# Altium integrated library DTM1312PA12PBR008.IntLib: 1 symbol
Pins are listed as number, name and electrical type; pins without a type are passive.

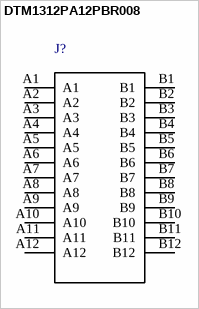
[diagram p0: symbol DTM1312PA12PBR008]

## DTM1312PA12PBR008
designator J?  (value not drawn)
Double Header 24 pin receptacle; MF: TE Connectivity; MP: DTM13-12PA-12PB-R008; Package: None; TE_purchase_URL: https://www.te.com/usa-en/product-DTM1312PA12PBR008.html?te_bu=Cor&te_type=disp&te_campaign=seda_glo_cor-seda-global-disp-prtnr-fy19-seda-model-bom-cta_sma-317_1&elqCampaignId=32493; Price: None; Availability: Unavailable; SnapEDA_Link: https://www.snapeda.com/parts/DTM13-12PA-12PB-R008/TE%20Connectivity%20Deutsch%20Connectors/view-part/?ref=snap; Value: *
footprint *TE_DTM1312PA12PBR008_DTM1312PA12PBR008(Primary)
pins: A1, A2, A3, A4, A5, A6, A7, A8, A9, A10, A11, A12, B1, B2, B3, B4, B5, B6, B7, B8, B9, B10, B11, B12